# Altium schematic symbol library LM317LDR2G.Schlib: 1 symbol
Pins are listed as number, name and electrical type; pins without a type are passive.

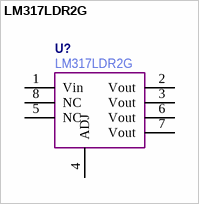
[diagram p0: symbol LM317LDR2G]

## LM317LDR2G
designator U?
LM317LM317LDR2G; Manufacturer Part Number: LM317LDR2G
pins: 1 Vin, 2 Vout, 3 Vout, 4 ADJ, 5 NC, 6 Vout, 7 Vout, 8 NC